# Altium footprint library MOLEX_53261-0471.PcbLib: 1 footprints
Each footprint in its own frame and in the unit in brackets; x right, y up, seen from the top. Pads: shape width x height; smd on the part's side, far side on the other; paste and mask are expansions set on the pad; w line width, h text height; cw(c..) or ccw(c..) is an arc to the next point about the centre after c.
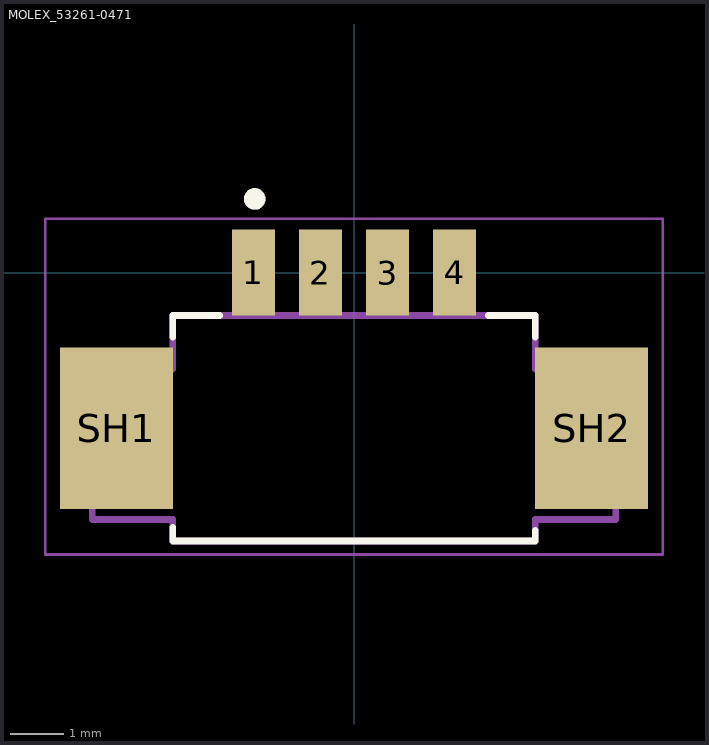
[diagram p0: the footprint, top view; thin cyan lines are the x and y axes]

## MOLEX_53261-0471 [mm]
pads (6):
  rect 0.8x1.6 smd: 1(-1.875,0) 2(-0.625,0) 3(0.625,0) 4(1.875,0)
  rect 2.1x3 smd: SH1(-4.425,-2.9) SH2(4.425,-2.9)
Top Overlay:
  circle w0.2: c-1.85,1.37 r0.1
  lines w0.127: -3.375,-4.75 -3.375,-5 3.375,-5 3.375,-4.8 ; -3.375,-1.2 -3.375,-0.8 -2.5,-0.8 ; 2.5,-0.8 3.375,-0.8 3.375,-1.2
Mechanical 13:
  circle w0.2: c-1.85,1.37 r0.1
  lines w0.127: -4.875,-4.6 -3.375,-4.6 -3.375,-5 3.375,-5 3.375,-4.6 4.875,-4.6 4.875,-1.8 3.375,-1.8 3.375,-0.8 -3.375,-0.8 -3.375,-1.8 -4.875,-1.8 -4.875,-4.6
Mechanical 15:
  lines w0.05: -5.75,-5.25 -5.75,1 5.75,1 5.75,-5.25 -5.75,-5.25